# EAGLE library part TDA8931 (library Audio-Power-amlifier V.2.0)
The TDA8931 is a switching power stage for high efficiency class-D audio power amplifier systems. It contains a Single-Ended (SE) power stage, drive logic, protection control logic, a full differential input comparator and a HVP charger to charge the SE capacitor. With this amplifier a compact 1 ´ 20 W closed loop self-oscillating digital amplifier system can be built. The TDA8931 has a high efficiency so that a heat sink is not required up to 20 W (RMS). The system operates on an asymmetrical and a symmetrical supply voltage.
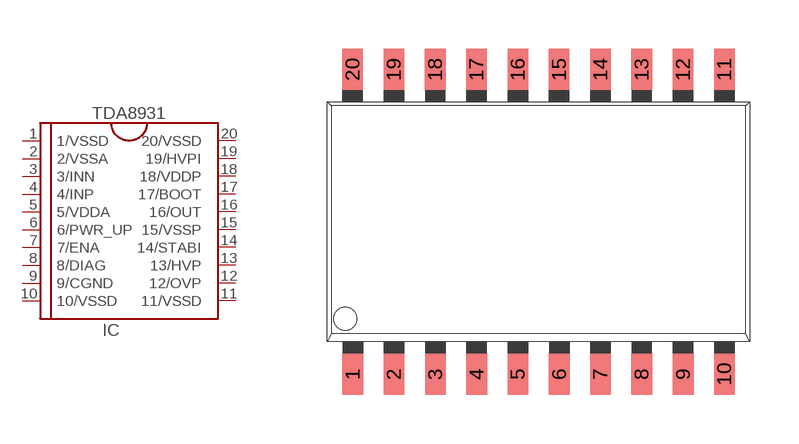
[diagram p169: symbol with the pads of SOT163-1; footprint SOT163-1]

Designator prefix IC

## TDA8931  [SOT163-1]
1  1/VSSD  pwr
2  2/VSSA  pwr
3  3/INN  in
4  4/INP  in
5  5/VDDA  pwr
6  6/PWR_UP  in
7  7/ENA  in
8  8/DIAG  out
9  9/CGND  pwr
10  10/VSSD  pwr
11  11/VSSD  pwr
12  12/OVP  in
13  13/HVP  out
14  14/STABI
15  15/VSSP  pwr
16  16/OUT  out
17  17/BOOT
18  18/VDDP  pwr
19  19/HVPI  out
20  20/VSSD  pwr

## Footprint SOT163-1 (pad centres in mm)
smd 0.635 x 1.27: 1 -5.71,-4.685; 2 -4.445,-4.685; 3 -3.17,-4.685; 4 -1.9,-4.685; 5 -0.635,-4.685; 6 0.64,-4.685; 7 1.905,-4.685; 8 3.175,-4.685; 9 4.45,-4.685; 10 5.715,-4.685; 11 5.715,4.685; 12 4.445,4.685; 13 3.175,4.685; 14 1.905,4.685; 15 0.635,4.685; 16 -0.635,4.685; 17 -1.905,4.685; 18 -3.175,4.685; 19 -4.445,4.685; 20 -5.715,4.685